# EAGLE library part NTE1898 (library Audio-Power-amplifier)
Dual Audio Power Amp, 5.8W (22W BTL)
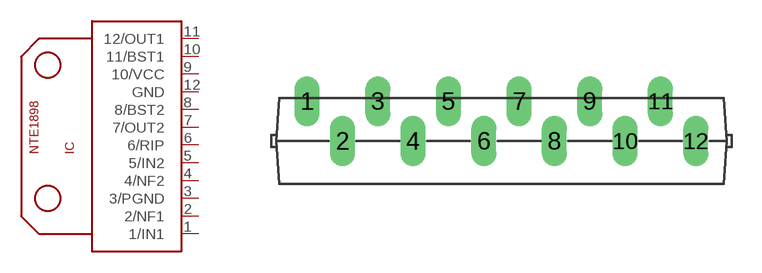
[diagram p62: symbol with the pads of SIP12; footprint SIP12]

Designator prefix IC

## NTE1898  [SIP12]
1  1/IN1  in
2  2/NF1
3  3/PGND  pwr
4  4/NF2
5  5/IN2  in
6  6/RIP
7  7/OUT2  out
8  8/BST2
9  10/VCC  pwr
10  11/BST1
11  12/OUT1  out
12  GND  pwr

## Footprint SIP12 (pad centres in mm)
drill 0.7 pad 1.27 long: 1 -9.79,2.01; 2 -8.01,0; 3 -6.23,2.01; 4 -4.45,0; 5 -2.67,2.01; 6 -0.89,0; 7 0.89,2.01; 8 2.67,0; 9 4.45,2.01; 10 6.23,0; 11 8.01,2.01; 12 9.79,0